# EAGLE library part ADF4351 (library Analog Devices)
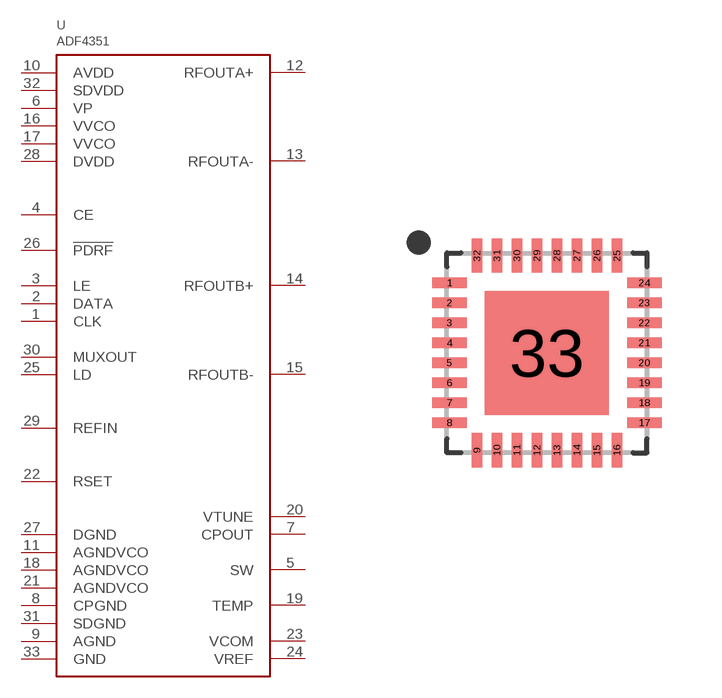
[diagram p21: symbol with the pads of QFN32; footprint QFN32]

Designator prefix U

## ADF4351  [QFN32]
1  CLK
2  DATA
3  LE
4  CE
5  SW
6  VP
7  CPOUT
8  CPGND
9  AGND
10  AVDD
11  AGNDVCO
12  RFOUTA+
13  RFOUTA-
14  RFOUTB+
15  RFOUTB-
16  VVCO
17  VVCO
18  AGNDVCO
19  TEMP
20  VTUNE
21  AGNDVCO
22  RSET
23  VCOM
24  VREF
25  LD
26  !PDRF
27  DGND
28  DVDD
29  REFIN
30  MUXOUT
31  SDGND
32  SDVDD
33  GND

## Footprint QFN32 (pad centres in mm)
smd 0.86 x 0.26: 1 -2.435,1.75; 2 -2.435,1.25; 3 -2.435,0.75; 4 -2.435,0.25; 5 -2.435,-0.25; 6 -2.435,-0.75; 7 -2.435,-1.25; 8 -2.435,-1.75; 17 2.435,-1.75; 18 2.435,-1.25; 19 2.435,-0.75; 20 2.435,-0.25; 21 2.435,0.25; 22 2.435,0.75; 23 2.435,1.25; 24 2.435,1.75
smd 0.26 x 0.86: 9 -1.75,-2.435; 10 -1.25,-2.435; 11 -0.75,-2.435; 12 -0.25,-2.435; 13 0.25,-2.435; 14 0.75,-2.435; 15 1.25,-2.435; 16 1.75,-2.435; 25 1.75,2.435; 26 1.25,2.435; 27 0.75,2.435; 28 0.25,2.435; 29 -0.25,2.435; 30 -0.75,2.435; 31 -1.25,2.435; 32 -1.75,2.435
smd 3.1 x 3.1: 33 0,0